# Altium footprint library SIM900.PcbLib: 1 footprints
Each footprint in its own frame and in the unit in brackets; x right, y up, seen from the top. Pads: shape width x height; smd on the part's side, far side on the other; paste and mask are expansions set on the pad; w line width, h text height; cw(c..) or ccw(c..) is an arc to the next point about the centre after c.
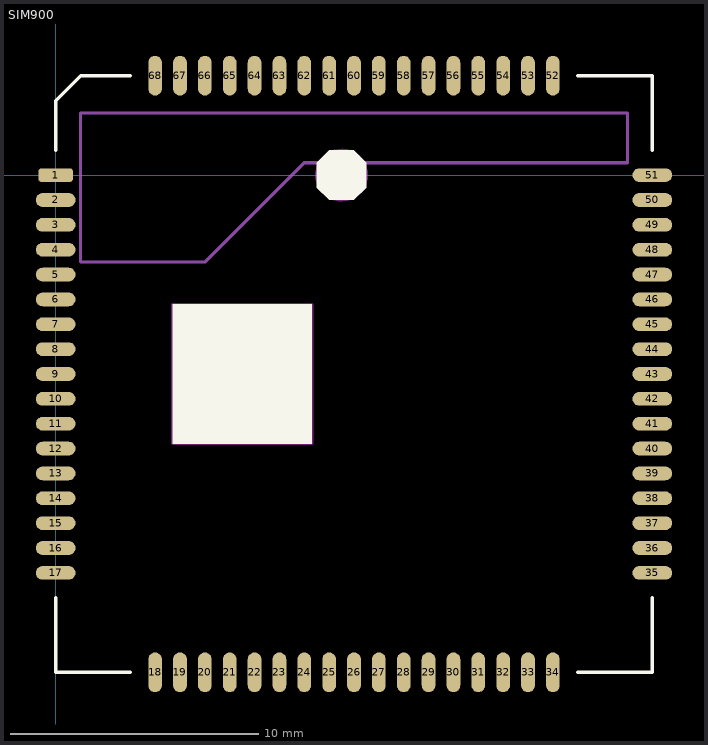
[diagram p0: the footprint, top view; thin cyan lines are the x and y axes]

## SIM900 [mm] "PCB for sim900"
height 3
pads (68):
  rrect50% 1.4x0.55 smd: 1(0,0)
  oval 1.6x0.55 smd: 2(0,-1) 3(0,-2) 4(0,-3) 5(0,-4) 6(0,-5) 7(0,-6) 8(0,-7) 9(0,-8) 10(0,-9) 11(0,-10) 12(0,-11) 13(0,-12) 14(0,-13) 15(0,-14) 16(0,-15) 17(0,-16) 35(24,-16) 36(24,-15) 37(24,-14) 38(24,-13) 39(24,-12) 40(24,-11) 41(24,-10) 42(24,-9) 43(24,-8) 44(24,-7) 45(24,-6) 46(24,-5) 47(24,-4) 48(24,-3) 49(24,-2) 50(24,-1) 51(24,0)
  oval 0.55x1.6 smd: 18(4,-20) 19(5,-20) 20(6,-20) 21(7,-20) 22(8,-20) 23(9,-20) 24(10,-20) 25(11,-20) 26(12,-20) 27(13,-20) 28(14,-20) 29(15,-20) 30(16,-20) 31(17,-20) 32(18,-20) 33(19,-20) 34(20,-20) 52(20,4) 53(19,4) 54(18,4) 55(17,4) 56(16,4) 57(15,4) 58(14,4) 59(13,4) 60(12,4) 61(11,4) 62(10,4) 63(9,4) 64(8,4) 65(7,4) 66(6,4) 67(5,4) 68(4,4)
Top Overlay:
  region: 4.7,-5.2 10.3,-5.2 10.3,-10.8 4.7,-10.8
  region: 10.5,0.5 11,1 12,1 12.5,0.5 12.5,-0.5 12,-1 11,-1 10.5,-0.5
  lines w0.127: 0,-17 0,-20 3,-20 ; 0,1 0,3 1,4 3,4 ; 21,-20 24,-20 24,-17 ; 21,4 24,4 24,1
Keep-Out Layer:
  circle w0.127: c11.5,0 r1.005
  lines w0.127: 4.7,-10.8 10.3,-10.8 10.3,-5.2 4.7,-5.2 4.7,-10.8
Mechanical 13:
  lines w0.127: 1,-3.5 6,-3.5 10,0.5 23,0.5 23,2.5 1,2.5 1,-3.5
3D body: height 3.02, standoff 3.01, extent 0.999,-3.501 23.001,2.501
3D body: height 3.01, standoff 3, extent 0.937,-19.064 23.063,3.063
3D body: height 1.01, standoff 1, extent -0.001,0.499 3.501,4.001
3D body: height 3, standoff 1, extent 0.736,-19.263 23.264,3.264
3D body: height 1, standoff 0, extent -0.001,-20.001 24.001,4.001